# Altium schematic symbol library Industrial Connectors Aliexpress.SchLib: 7 symbols
Pins are listed as number, name and electrical type; pins without a type are passive.

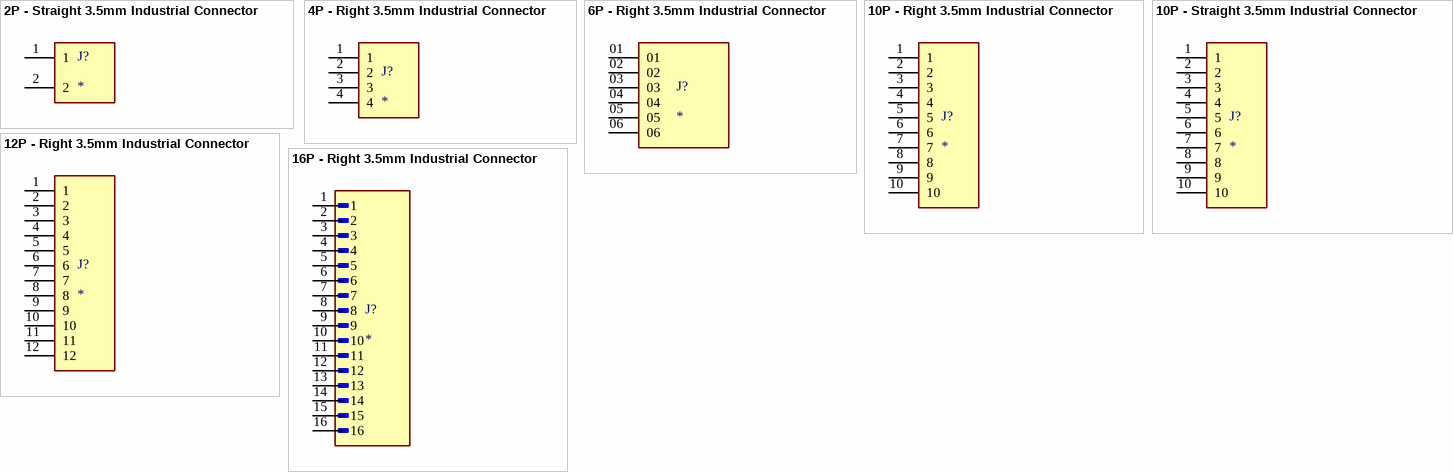
[diagram p0: symbols 2P - Straight 3.5mm Industrial Connector to 16P - Right 3.5mm Industrial Connector]

## 2P - Straight 3.5mm Industrial Connector
designator J?
MP: KF301-2P; Price: None; Value: *; Package: None; Availability: Unavailable
footprint 2P - Straight 3.5mm Industrial Connector
pins: 1, 2

## 4P - Right 3.5mm Industrial Connector
designator J?
MP: 5-146290-4; Package: None; Price: None; Value: *; Availability: Unavailable
footprint 4P - Right 3.5mm Industrial Connector
pins: 1, 2, 3, 4

## 6P - Right 3.5mm Industrial Connector
designator J?
MP: HTSW10608SSLA; MF: Samtec; Purchase-URL: https://pricing.snapeda.com/search/part/HTSW10608SSLA/?ref=eda; Package: None; Check_prices: https://www.snapeda.com/parts/HTSW10608SSLA/Samtec/view-part/?ref=eda; Price: None; SnapEDA_Link: https://www.snapeda.com/parts/HTSW10608SSLA/Samtec/view-part/?ref=snap; Availability: In Stock; Value: *
footprint 6P - Right 3.5mm Industrial Connector
pins: 01, 02, 03, 04, 05, 06

## 10P - Right 3.5mm Industrial Connector
designator J?
10 Pin; MP: 1-2342071-0; Package: None; Price: None; Value: *; Availability: Unavailable
footprint 10P - Right 3.5mm Industrial Connector
pins: 1, 2, 3, 4, 5, 6, 7, 8, 9, 10

## 10P - Straight 3.5mm Industrial Connector
designator J?
MP: 1-2342071-0; Package: None; Price: None; Value: *; Availability: Unavailable
footprint 10P - Straight 3.5mm Industrial Connector (10 Pin)
pins: 1, 2, 3, 4, 5, 6, 7, 8, 9, 10

## 12P - Right 3.5mm Industrial Connector
designator J?
12 Pin; MP: 1-2350514-2; Package: None; Price: None; Value: *; Availability: Unavailable
footprint 12P - Right 3.5mm Industrial Connector (12 Pin)
pins: 1, 2, 3, 4, 5, 6, 7, 8, 9, 10, 11, 12

## 16P - Right 3.5mm Industrial Connector
designator J?
MF: {'manufacturer': u'Phoenix Contact'}; MP: 1731811; Package: None; Price: None; Value: *; Availability: Unavailable
footprint 16P - Right 3.5mm Industrial Connector
pins: 1, 2, 3, 4, 5, 6, 7, 8, 9, 10, 11, 12, 13, 14, 15, 16